# EAGLE library part 750315248 (library wurth_electronics_midcom_inc_v2-1)
Package Style: ER9.5/4.6 Mounting: SMD Pins: 8 pins Bobbin: 070-6310 Best pinouts for production vary per application. Please contact Wurth Electronics Midcom, Inc. for assistance with your custom design. Website: Wurth Electronics Midcom <http://www.we-online.com/midcom> Contact us Wurth Electronics Midcom, Inc. 121 Airport Dr. Watertown, SD 57201 Phone: (605) 886-4385 Fax: (605) 886-4486 E-Mail: midcom@we-online.com
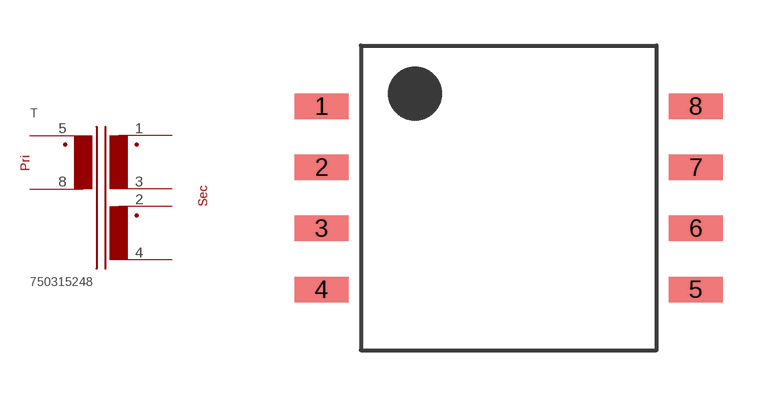
[diagram p55: symbol with the pads of ER9.5/4.6_SMD_V_8PIN_(6310); footprint ER9.5/4.6_SMD_V_8PIN_(6310)]

Designator prefix T

## 750315248  [ER9.5/4.6_SMD_V_8PIN_(6310)]
1  1  pas
2  2  pas
3  3  pas
4  4  pas
5  5  pas
8  8  pas

## Footprint ER9.5/4.6_SMD_V_8PIN_(6310) (pad centres in mm)
Package Style: ER9.5/4.6 Mounting: SMD Pins: 8 Bobbin: 070-6310
smd 1.778 x 0.838: 1 -6.147,3.01; 2 -6.147,1.003; 3 -6.147,-1.003; 4 -6.147,-3.01; 5 6.147,-3.01; 6 6.147,-1.003; 7 6.147,1.003; 8 6.147,3.01